# Altium footprint library SWITCH_TACT_PUSHB.PcbLib: 49 footprints (part 4 of 4)
Each footprint in its own frame and in the unit in brackets; x right, y up, seen from the top. Pads: shape width x height; smd on the part's side, far side on the other; paste and mask are expansions set on the pad; w line width, h text height; cw(c..) or ccw(c..) is an arc to the next point about the centre after c.
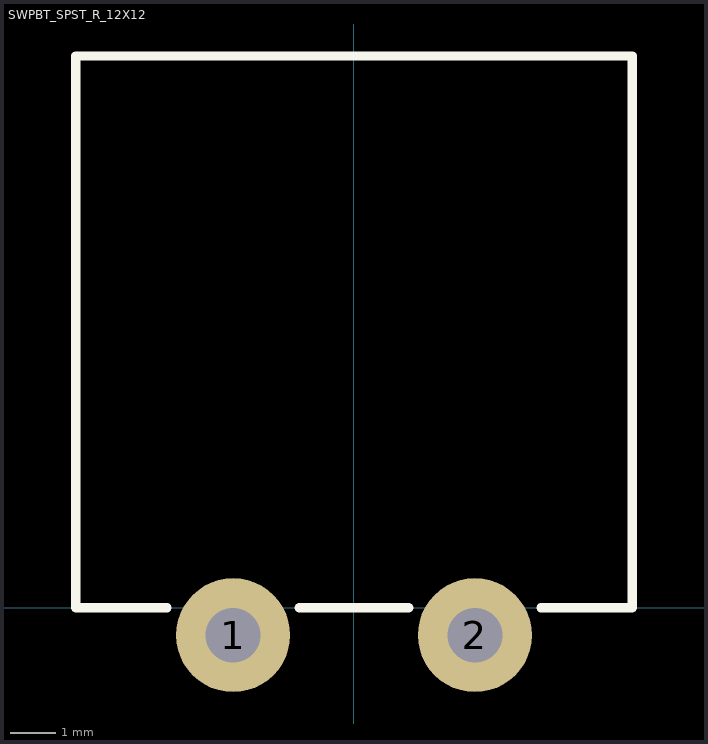
[diagram p3: the footprint, top view; thin cyan lines are the x and y axes]

## SWPBT_SPST_R_12X12 [mm] "SWITCH, PUSHBUTTON, THD, SPST, GPTS203212B (CW) 12x12x9.1mm"
height 9
pads (2):
  round 2.5 hole 1.2 mask+0.1: 1(-2.65,-0.6) 2(2.65,-0.6)
Top Overlay:
  lines w0.2: -4.1,0 -6.1,0 -6.1,12.1 6.1,12.1 6.1,0 4.1,0 ; -1.2,0 1.2,0
3D body: height 3.85, standoff -1.85, extent 2.15,-0.8 3.15,-0.4
3D body: height 3.9, standoff 3.5, extent 2.15,-0.8 3.15,0
3D body: height 3.9, standoff 3.5, extent -3.15,-0.8 -2.15,0
3D body: height 3.85, standoff -1.85, extent -3.15,-0.8 -2.15,-0.4
3D body: height 6.5, standoff 0, extent -6,0 6,12
3D body: height 9.1, standoff 0, extent -2.7,3.3 2.7,8.7